# Altium footprint library DDA8.PcbLib: 1 footprints
Each footprint in its own frame and in the unit in brackets; x right, y up, seen from the top. Pads: shape width x height; smd on the part's side, far side on the other; paste and mask are expansions set on the pad; w line width, h text height; cw(c..) or ccw(c..) is an arc to the next point about the centre after c.
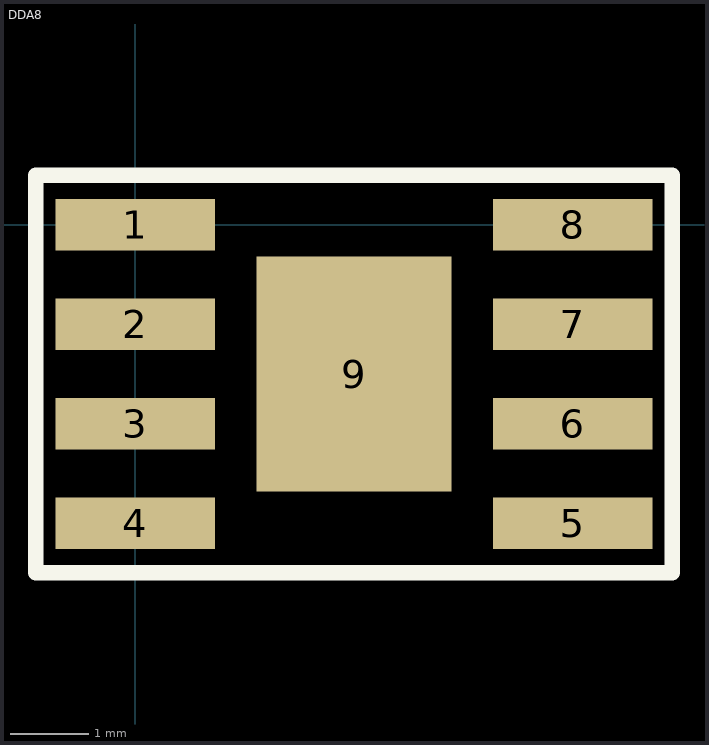
[diagram p0: the footprint, top view; thin cyan lines are the x and y axes]

## DDA8 [mil]
height 3
pads (9):
  rect 80x26 smd: 1(0,0) 2(0,-50) 3(0,-100) 4(0,-150) 5(220,-150) 6(220,-100) 7(220,-50) 8(220,0)
  rect 98x118 smd: 9(110,-75)
Top Overlay:
  lines w7.87: -50,-175 -50,25 270,25 270,-175 -50,-175
3D body: height 68.9, standoff 0.01, extent -13.34,-173.42 223.34,23.43